# Altium schematic symbol library EEVFK1H102M.SchLib: 1 symbol
Pins are listed as number, name and electrical type; pins without a type are passive.

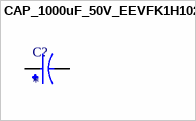
[diagram p0: symbol CAP_1000uF_50V_EEVFK1H102M]

## CAP_1000uF_50V_EEVFK1H102M
designator C?
1000ÂµF 50V Aluminum Electrolytic Capacitors Radial, Can - SMD 5000 Hrs @ 105Â°C; MF: Panasonic; MP: EEVFK1H102M; SnapEDA_Link: https://www.snapeda.com/parts/EEVFK1H102M/Panasonic/view-part/5787261/?ref=snap; Check_prices: https://www.snapeda.com/parts/EEVFK1H102M/Panasonic/view-part/5787261/?ref=eda; Digi-Key_Part_Number: PCE3477CT-ND; Package: RADIAL-2 Panasonic; Value: *
footprint CAP_EEVFK1H102M
pins: 1, 2